# Altium footprint library footprint.PcbLib: 56 footprints (part 3 of 4)
Each footprint in its own frame and in the unit in brackets; x right, y up, seen from the top. Pads: shape width x height; smd on the part's side, far side on the other; paste and mask are expansions set on the pad; w line width, h text height; cw(c..) or ccw(c..) is an arc to the next point about the centre after c.
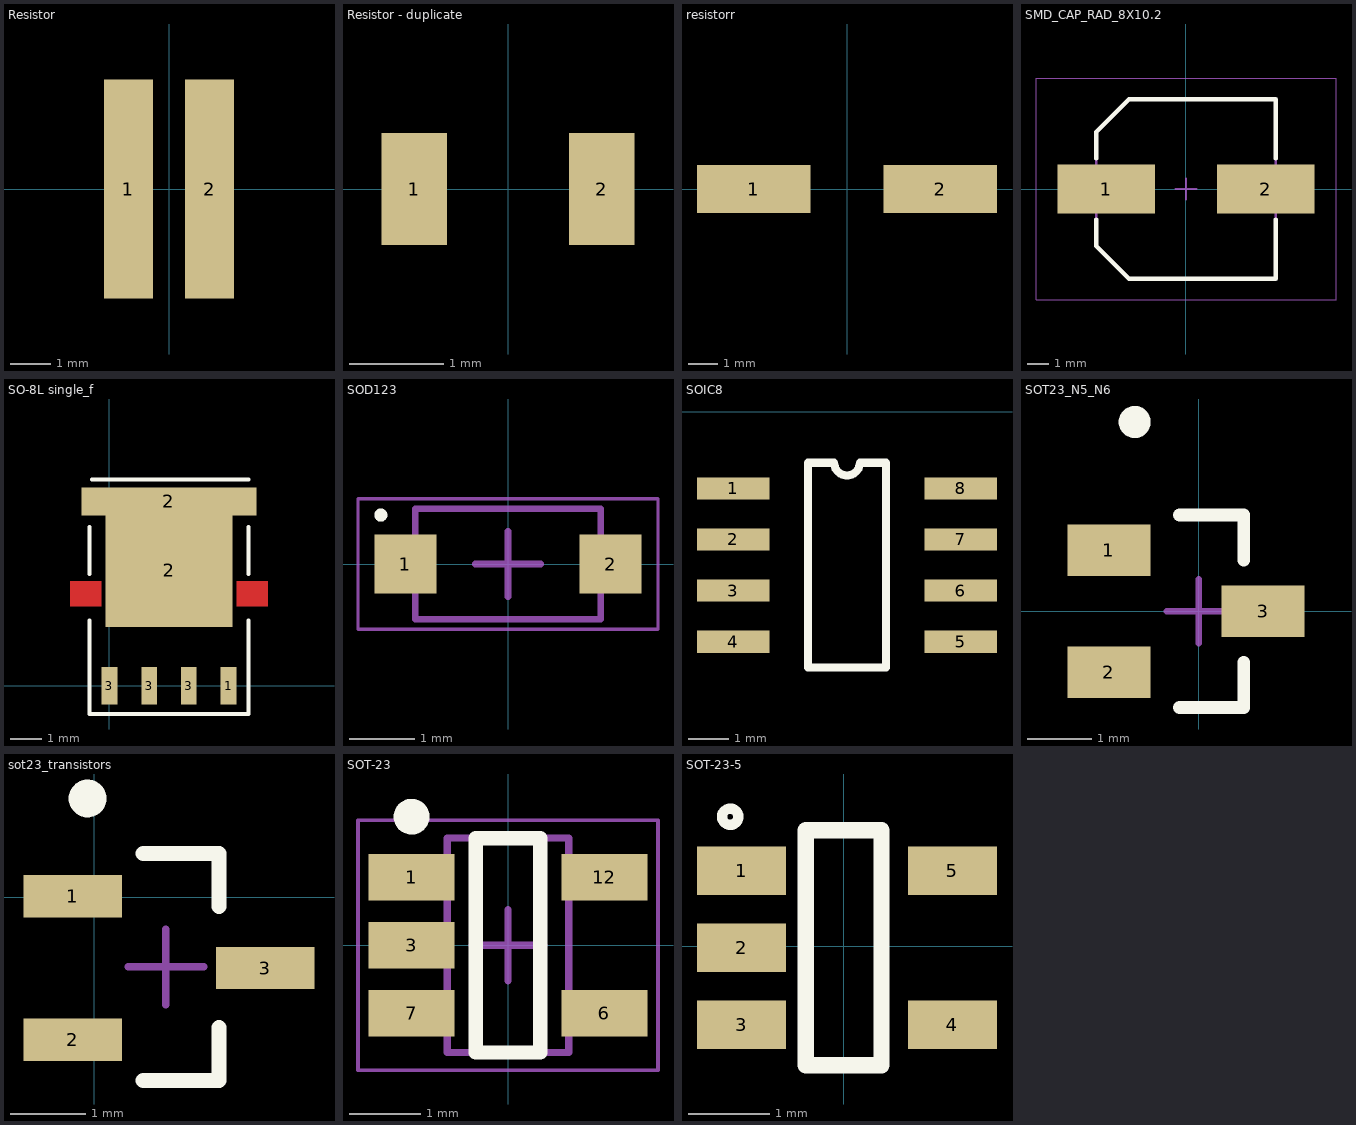
[diagram p2: the footprints below, top view; thin cyan lines are the x and y axes]

## PCBComponent_1 - duplicate6 [mm]

## PCBComponent_1 - duplicate7 [mm]

## PCBComponent_1 - duplicate8 [mm]

## PCBComponent_1 - duplicate9 [mm]

## Resistor [mm]
pads (2):
  rect 1.2x5.4 smd: 1(-1,0) 2(1,0)

## Resistor - duplicate [mm]
pads (2):
  rect 0.7x1.2 smd: 1(-1,0) 2(1,0)

## resistorr [mm]
pads (2):
  rect 3.8x1.6 smd: 1(-3.125,0) 2(3.125,0)

## SMD_CAP_RAD_8X10.2 [mm]
height 10.5
pads (2):
  rect 4.6x2.3 smd: 1(-3.775,0) 2(3.775,0)
Top Overlay:
  lines w0.2: -4.25,-1.45 -4.25,-2.7 -2.7,-4.25 4.25,-4.25 4.25,-1.45 ; -4.25,1.45 -4.25,2.7 -2.7,4.25 4.25,4.25 4.25,1.45
Mechanical 13:
  lines w0.1: -4.25,-2.7 -4.25,2.7 -2.7,4.25 4.25,4.25 4.25,-4.25 -2.7,-4.25 -4.25,-2.7
Mechanical 15:
  lines w0.05: -7.1,-5.25 7.1,-5.25 7.1,5.25 -7.1,5.25 -7.1,-5.25
  lines w0.1: -0.5,0 0.5,0 ; 0,-0.5 0,0.5
3D body: height 10.5, standoff 0, extent -4.25,-4.25 4.25,4.25
3D body: height 3.5, standoff 0, extent -4.25,-4.25 4.25,4.25

## SO-8L single_f [mm]
pads (6):
  rect 0.5x1.2 smd: 1(3.81,0) 3(0,0) 3(1.27,0) 3(2.54,0)
  rect 5.6x0.9 smd: 2(1.9,5.9)
  rect 4.061x3.63 smd: 2(1.905,3.706)
Top Layer:
  rectangle: -1.272,2.54 -0.254,3.35
  rectangle: 4.062,2.54 5.08,3.35
Top Overlay:
  lines w0.127: -0.635,2.1 -0.635,-0.9 4.445,-0.9 4.445,2.1 ; -0.635,3.58 -0.635,5.08 ; -0.555,6.604 4.445,6.604 ; 4.445,3.58 4.445,5.08

## SOD123 [mm] "SODFL, 2-Leads, Body 1,55x3,70mm, IPC Medium Density"
height 1
pads (2):
  rect 0.95x0.9 smd: 1(-1.575,0) 2(1.575,0)
Top Overlay:
  circle w0.1: c-1.95,0.75 r0.05
Mechanical 13:
  lines w0.1: -1.425,-0.85 1.425,-0.85 1.425,0.85 -1.425,0.85 -1.425,-0.85
Mechanical 15:
  lines w0.05: -2.3,-1 2.3,-1 2.3,1 -2.3,1 -2.3,-1
  lines w0.1: -0.5,0 0.5,0 ; 0,-0.5 0,0.5
3D body: height 1, standoff 0, extent -1.425,-0.85 1.425,0.85

## SOIC8 [mm]
pads (8):
  rect 1.8x0.55 smd: 1(2.85,-1.905) 2(2.85,-3.175) 3(2.85,-4.445) 4(2.85,-5.715) 5(8.5,-5.715) 6(8.5,-4.445) 7(8.5,-3.175) 8(8.5,-1.905)
Top Overlay:
  lines w0.2: 4.71,-6.35 4.71,-1.27 5.358,-1.27 ccw(c5.675,-1.27) 5.993,-1.27 6.64,-1.27 6.64,-6.35 4.71,-6.35

## SOT23-transistors [mm]
height 0.91

## SOT23_N5_N6 [mm] "SOT23, 3-Leads, Body 2,90x2,90mm, Pitch 2,00mm, IPC Medium Density"
height 0.91
pads (3):
  rect 1.3x0.8 smd: 1(-1.4,0.95) 2(-1.4,-0.95) 3(1,0)
Top Overlay:
  circle w0.25: c-1,2.95 r0.125
  lines w0.2: -0.3,-1.5 0.7,-1.5 0.7,-0.8 ; -0.3,1.5 0.7,1.5 0.7,0.8
Mechanical 15:
  lines w0.1: -0.5,0 0.5,0 ; 0,-0.5 0,0.5

## sot23_transistors [mm]
pads (3):
  rect 1.3x0.559 smd: 1(-0.287,0.015) 2(-0.287,-1.885) 3(2.258,-0.935)
Top Overlay:
  circle w0.25: c-0.091,1.307 r0.125
  lines w0.2: 0.645,-2.421 1.645,-2.421 1.645,-1.721 ; 0.645,0.579 1.645,0.579 1.645,-0.121
Mechanical 15:
  lines w0.1: 0.445,-0.921 1.445,-0.921 ; 0.945,-1.421 0.945,-0.421

## SOT-23 [mm] "SOT23, 5-Leads, Body 2,90x2,80mm, Pitch 0,95mm, IPC Medium Density"
height 1.45
pads (5):
  rect 1.2x0.65 smd: 1(-1.35,0.95) 3(-1.35,0) 6(1.35,-0.95) 7(-1.35,-0.95) 12(1.35,0.95)
Top Overlay:
  circle w0.25: c-1.35,1.8 r0.125
  lines w0.2: -0.45,-1.5 0.45,-1.5 0.45,1.5 -0.45,1.5 -0.45,-1.5
Mechanical 13:
  lines w0.1: -0.85,-1.5 -0.85,1.5 0.85,1.5 0.85,-1.5 -0.85,-1.5
Mechanical 15:
  lines w0.05: -2.1,-1.75 -2.1,1.75 2.1,1.75 2.1,-1.75 -2.1,-1.75
  lines w0.1: -0.5,0 0.5,0 ; 0,-0.5 0,0.5
3D body: height 1.45, standoff 0, extent -0.85,-1.5 0.85,1.5

## SOT-23-5 [mm]
pads (5):
  rect 1.1x0.6 smd paste-25.4 mask-25.4: 1(-1.262,0.931) 2(-1.262,-0.019) 3(-1.262,-0.969) 4(1.338,-0.969) 5(1.338,0.931)
Top Overlay:
  circle w0.127: c-1.402,1.597 r0.1
  lines w0.2: -0.47,-1.469 -0.47,1.431 0.463,1.431 0.463,-1.469 -0.47,-1.469
Top Paste:
  region: 0.788,0.631 1.888,0.631 1.888,1.231 0.788,1.231
  region: 0.788,-1.269 1.888,-1.269 1.888,-0.669 0.788,-0.669
  region: -1.812,-1.269 -0.712,-1.269 -0.712,-0.669 -1.812,-0.669
  region: -1.812,-0.319 -0.712,-0.319 -0.712,0.281 -1.812,0.281
  region: -1.812,0.631 -0.712,0.631 -0.712,1.231 -1.812,1.231
Top Solder:
  region: 0.788,0.631 1.888,0.631 1.888,1.231 0.788,1.231
  region: 0.788,-1.269 1.888,-1.269 1.888,-0.669 0.788,-0.669
  region: -1.812,-1.269 -0.712,-1.269 -0.712,-0.669 -1.812,-0.669
  region: -1.812,-0.319 -0.712,-0.319 -0.712,0.281 -1.812,0.281
  region: -1.812,0.631 -0.712,0.631 -0.712,1.231 -1.812,1.231